# EAGLE library part MCP3425MOD (library ytani1)
MCP3425(16Bit ADC I2C 基準電圧内蔵)搭載モジュール
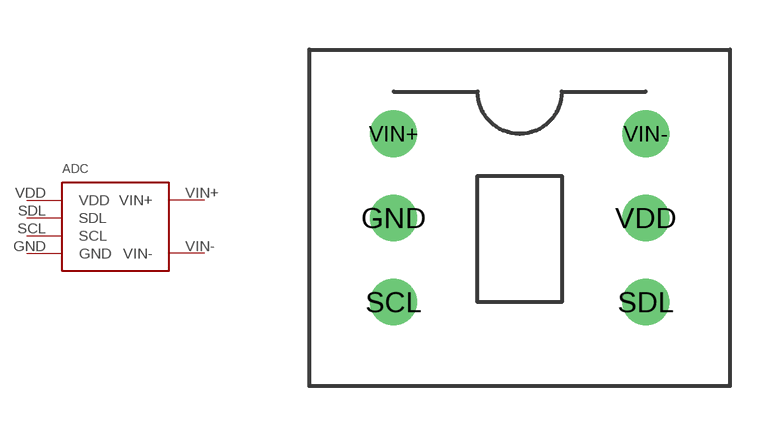
[diagram p8: symbol with the pads of MCP3425MOD; footprint MCP3425MOD]

Designator prefix ADC

## MCP3425MOD (URL_AKIZUKI: https://akizukidenshi.com/catalog/g/gK-08018/)  [MCP3425MOD]
GND  GND
SCL  SCL
SDL  SDL
VDD  VDD
VIN+  VIN+
VIN-  VIN-

## Footprint MCP3425MOD (pad centres in mm)
drill 0.9: GND -2.54,0; SCL -2.54,-2.54; SDL 5.08,-2.54; VDD 5.08,0; VIN+ -2.54,2.54; VIN- 5.08,2.54